# Altium footprint library CLAP.PcbLib: 265 footprints (part 9 of 17)
Each footprint in its own frame and in the unit in brackets; x right, y up, seen from the top. Pads: shape width x height; smd on the part's side, far side on the other; paste and mask are expansions set on the pad; w line width, h text height; cw(c..) or ccw(c..) is an arc to the next point about the centre after c.
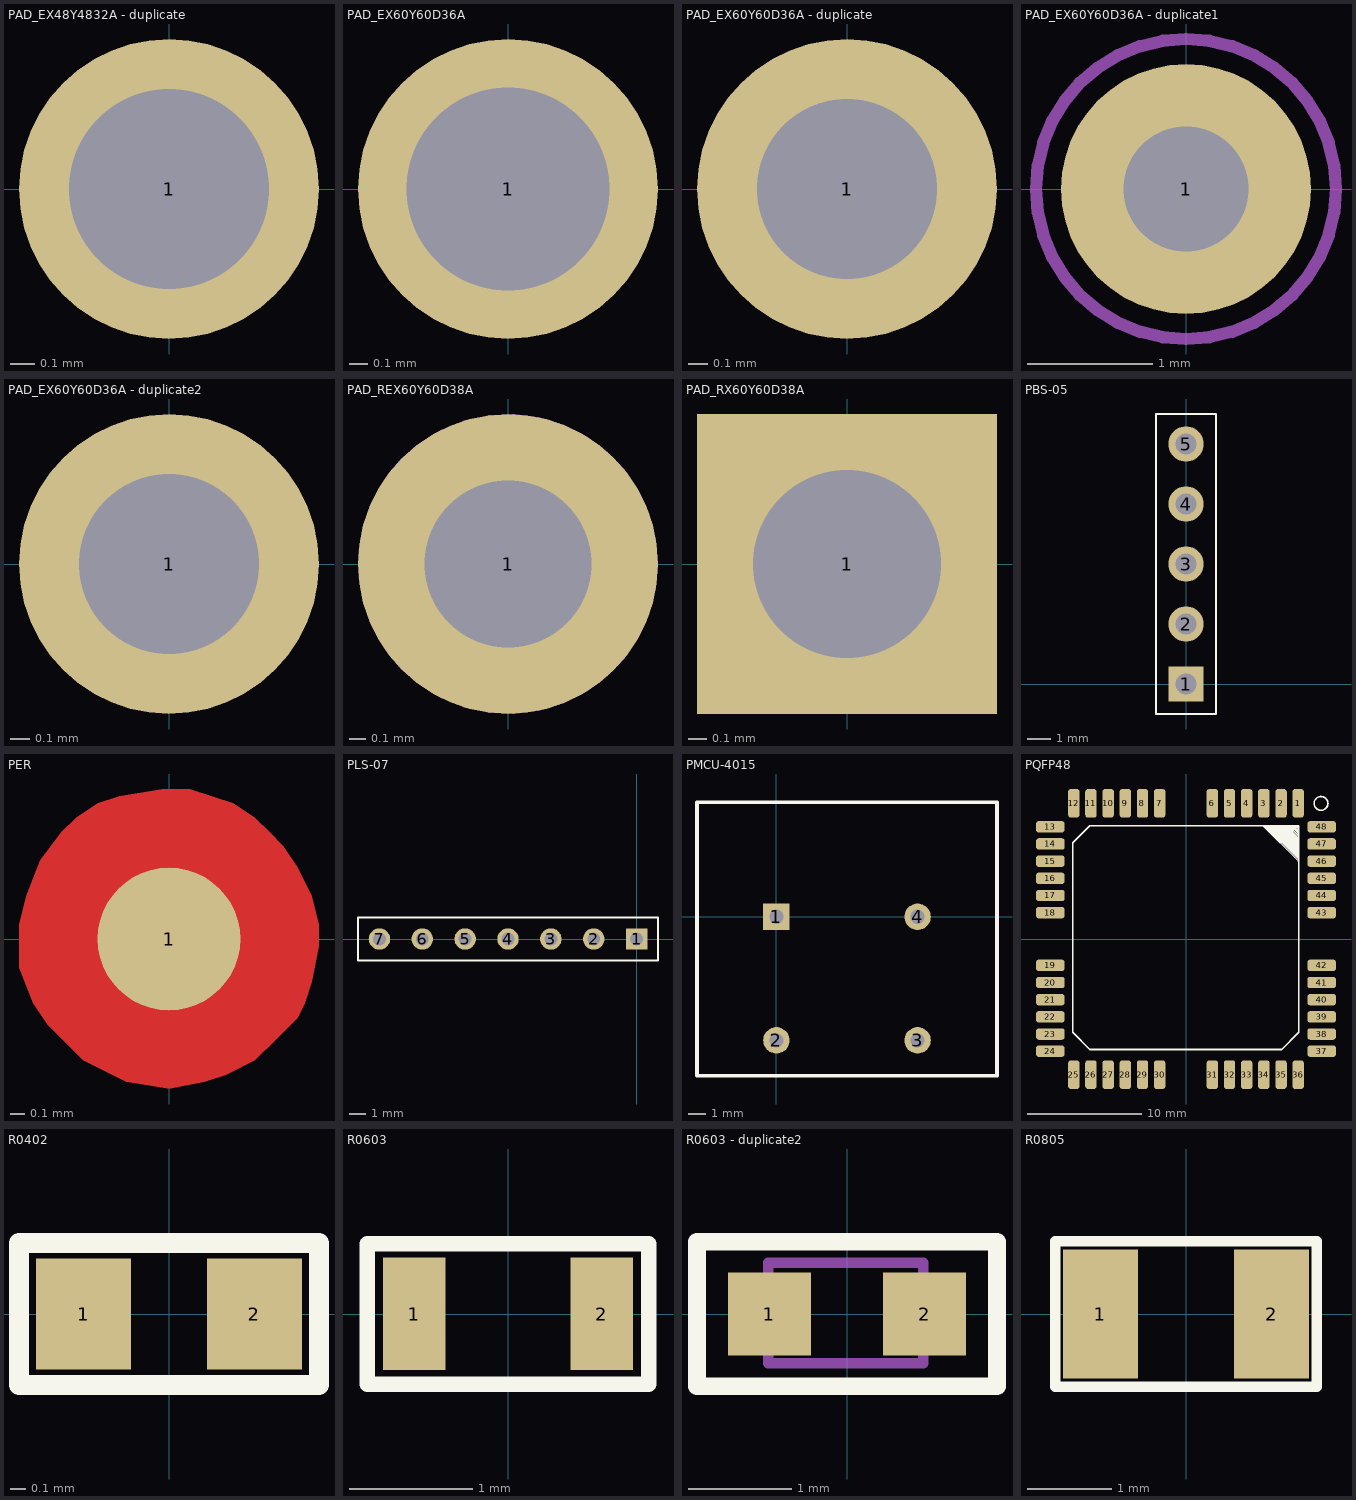
[diagram p8: the footprints below, top view; thin cyan lines are the x and y axes]

## PAD_EX48Y4832A - duplicate [mil]
pads (1):
  round 48 hole 32: 1(0,0)

## PAD_EX60Y60D36A [mm]
pads (1):
  round 1.624 hole 1.1: 1(0,0)

## PAD_EX60Y60D36A - duplicate [mil]
pads (1):
  round 60 hole 36: 1(0,0)

## PAD_EX60Y60D36A - duplicate1 [mm]
pads (1):
  round 2 hole 1: 1(0,0)
Mechanical 1:
  circle w0.1: c0,0 r1.2

## PAD_EX60Y60D36A - duplicate2 [mil]
pads (1):
  round 60 hole 36: 1(0,0)

## PAD_REX60Y60D38A [mm]
pads (1):
  round 1.8 hole 1: 1(0,0)
Mechanical 1:
  circle w0.1: c0,0 r0.85

## PAD_RX60Y60D38A [mm]
pads (1):
  rect 1.6x1.6 hole 1: 1(0,0)

## PBS-05 [mm]
pads (5):
  rect 1.5x1.5 hole 0.9: 1(0,0)
  round 1.5 hole 0.9: 2(0,2.54) 3(0,5.08) 4(0,7.62) 5(0,10.16)
Top Overlay:
  lines w0.102: -1.27,-1.27 1.27,-1.27 1.27,11.43 -1.27,11.43 -1.27,-1.27
3D body "PinHeader_1x05_P2.54mm_Vertical.step": height 8.54, standoff -3, extent -1.27,-1.27 1.27,11.43

## PER [mm]
pads (1):
  round 1 smd mask-25.4: 1(0,0)
Top Layer:
  pour cut-out: -1,0.3 -1.05,0.1 -1.05,-0.2 -0.95,-0.45 -0.85,-0.6 -0.6,-0.85 -0.3,-1 0,-1.05 0.25,-1 0.4,-0.95 0.6,-0.85 0.75,-0.7 0.9,-0.55 0.95,-0.45 1,-0.3 1.05,-0.05 1.05,0.1 1,0.3 0.9,0.5 0.8,0.65 0.7,0.75 0.6,0.85 0.45,0.95 0.3,1 0.15,1.05 -0.05,1.05 -0.35,1 -0.5,0.95 -0.65,0.85 -0.75,0.75 -0.9,0.55
Top Solder:
  region: 0,1.009 -0.261,0.974 -0.504,0.873 -0.713,0.713 -0.873,0.504 -0.974,0.261 -1.009,0 -0.974,-0.261 -0.873,-0.504 -0.713,-0.713 -0.504,-0.873 -0.261,-0.974 0,-1.009 0.261,-0.974 0.504,-0.873 0.713,-0.713 0.873,-0.504 0.974,-0.261 1.009,0 0.974,0.261 0.873,0.504 0.713,0.713 0.504,0.873 0.261,0.974

## PLS-07 [mil]
pads (7):
  rect 50x50 hole 30: 1(0,0)
  round 50 hole 30: 2(-100,0) 3(-200,0) 4(-300,0) 5(-400,0) 6(-500,0) 7(-600,0)
Top Overlay:
  lines w4: -650,-50 50,-50 50,50 -650,50 -650,-50

## PMCU-4015 [mm]
pads (4):
  rect 1.5x1.5 hole 0.8: 1(0,0)
  round 1.5 hole 0.8: 2(0,-7) 3(8,-7) 4(8,0)
Top Overlay:
  lines w0.2: -4.5,-9 -4.5,6.5 12.5,6.5 12.5,-9 -4.445,-9.017

## PQFP48 [mm]
pads (48):
  rrect50% 1x2.5 smd: 1(9.8,11.85) 2(8.3,11.85) 3(6.8,11.85) 4(5.3,11.85) 5(3.8,11.85) 6(2.3,11.85) 7(-2.3,11.85) 8(-3.8,11.85) 9(-5.3,11.85) 10(-6.8,11.85) 11(-8.3,11.85) 12(-9.8,11.85) 25(-9.8,-11.85) 26(-8.3,-11.85) 27(-6.8,-11.85) 28(-5.3,-11.85) 29(-3.8,-11.85) 30(-2.3,-11.85) 31(2.3,-11.85) 32(3.8,-11.85) 33(5.3,-11.85) 34(6.8,-11.85) 35(8.3,-11.85) 36(9.8,-11.85)
  rrect50% 2.5x1 smd: 13(-11.85,9.8) 14(-11.85,8.3) 15(-11.85,6.8) 16(-11.85,5.3) 17(-11.85,3.8) 18(-11.85,2.3) 19(-11.85,-2.3) 20(-11.85,-3.8) 21(-11.85,-5.3) 22(-11.85,-6.8) 23(-11.85,-8.3) 24(-11.85,-9.8) 37(11.85,-9.8) 38(11.85,-8.3) 39(11.85,-6.8) 40(11.85,-5.3) 41(11.85,-3.8) 42(11.85,-2.3) 43(11.85,2.3) 44(11.85,3.8) 45(11.85,5.3) 46(11.85,6.8) 47(11.85,8.3) 48(11.85,9.8)
Top Overlay:
  circle w0.15: c11.792,11.842 r0.6
  lines w0.15: 6.737,9.884 9.83,6.807 ; 6.94,9.884 9.83,7.01 ; 7.143,9.884 9.804,7.239 ; 7.347,9.884 9.804,7.442 ; 7.55,9.884 9.804,7.62 ; 7.728,9.884 9.804,7.823 ; 7.905,9.884 9.83,7.95 ; 8.083,9.884 9.804,8.153 ; 8.286,9.859 9.786,8.359 ; 8.413,9.884 9.83,8.484 ; 8.591,9.884 9.83,8.661 ; 8.769,9.884 9.83,8.814 ; 8.972,9.884 9.83,9.017 ; 9.175,9.884 9.83,9.22 ; 9.379,9.884 9.83,9.423 ; 9.556,9.884 9.83,9.601 ; 9.709,9.884 9.83,9.754 ; 9.85,-8.15 8.35,-9.65 -8.4,-9.65 -9.9,-8.15 -9.9,8.4 -8.4,9.9 9.85,9.9 9.85,-8.1
3D body "Telit GL865.step": height 2.7, standoff -0.01, extent -12.21,-12.21 12.21,12.21

## R0402 [mil]
pads (2):
  rect 24x28 smd: 1(-21.65,0) 2(21.65,0)
Top Overlay:
  lines w5: -38,-18 -38,18 38,18 38,-18 -38,-18
3D body "RESC1005X35N.stp": height 13.78, standoff 0, extent -20.66,-10.82 20.67,10.83

## R0603 [mil]
pads (2):
  rect 20x36 smd: 1(-30,0) 2(30,0)
Top Overlay:
  lines w5: -45,-22.5 45,-22.5 45,22.5 -45,22.5 -45,-22.5
3D body "RESC1608X50N.stp": height 19.68, standoff 0, extent -34.44,-18.69 34.45,18.71

## R0603 - duplicate2 [mm]
pads (2):
  rect 0.8x0.8 smd: 1(-0.75,0) 2(0.75,0)
Top Overlay:
  lines w0.17: -1.45,-0.7 -1.45,0.7 1.45,0.7 1.45,-0.7 -1.45,-0.7
Mechanical 1:
  lines w0.1: -0.762,-0.475 0.738,-0.475 ; -0.762,-0.455 -0.762,0.495 0.738,0.495 0.738,-0.455
3D body "R_0603_1608Metric.step": height 0.45, standoff 0, extent -0.8,-0.4 0.8,0.4

## R0805 [mil]
pads (2):
  rect 35x60 smd: 1(-40,0) 2(40,0)
Top Overlay:
  lines w5: -61,-34 61,-34 61,34 -61,34 -61,-33
3D body "R_0805_2012Metric.step": height 17.72, standoff 0, extent -39.37,-23.62 39.37,23.63